# Altium footprint library CMV_lib.PcbLib: 2 footprints
Each footprint in its own frame and in the unit in brackets; x right, y up, seen from the top. Pads: shape width x height; smd on the part's side, far side on the other; paste and mask are expansions set on the pad; w line width, h text height; cw(c..) or ccw(c..) is an arc to the next point about the centre after c.
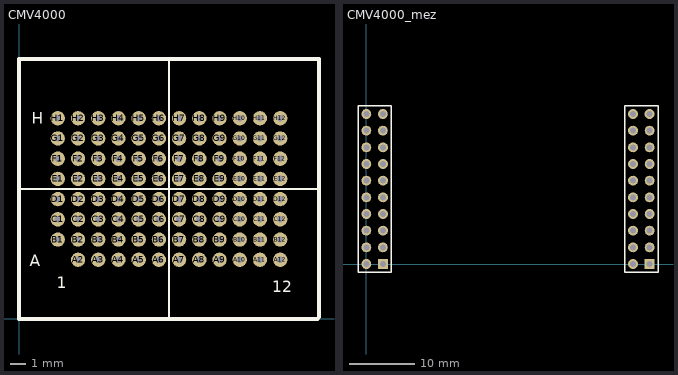
[diagram p0: the footprints below, top view; thin cyan lines are the x and y axes]

## CMV4000 [mm]
pads (95):
  round 0.9 hole 0.4: A2(3.708,3.708) A3(4.978,3.708) A4(6.248,3.708) A5(7.518,3.708) A6(8.788,3.708) A7(10.058,3.708) A8(11.328,3.708) A9(12.598,3.708) A10(13.868,3.708) A11(15.138,3.708) A12(16.408,3.708) B1(2.438,4.978) B2(3.708,4.978) B3(4.978,4.978) B4(6.248,4.978) B5(7.518,4.978) B6(8.788,4.978) B7(10.058,4.978) B8(11.328,4.978) B9(12.598,4.978) B10(13.868,4.978) B11(15.138,4.978) B12(16.408,4.978) C1(2.438,6.248) C2(3.708,6.248) C3(4.978,6.248) C4(6.248,6.248) C5(7.518,6.248) C6(8.788,6.248) C7(10.058,6.248) C8(11.328,6.248) C9(12.598,6.248) C10(13.868,6.248) C11(15.138,6.248) C12(16.408,6.248) D1(2.438,7.518) D2(3.708,7.518) D3(4.978,7.518) D4(6.248,7.518) D5(7.518,7.518) D6(8.788,7.518) D7(10.058,7.518) D8(11.328,7.518) D9(12.598,7.518) D10(13.868,7.518) D11(15.138,7.518) D12(16.408,7.518) E1(2.438,8.788) E2(3.708,8.788) E3(4.978,8.788) E4(6.248,8.788) E5(7.518,8.788) E6(8.788,8.788) E7(10.058,8.788) E8(11.328,8.788) E9(12.598,8.788) E10(13.868,8.788) E11(15.138,8.788) E12(16.408,8.788) F1(2.438,10.058) F2(3.708,10.058) F3(4.978,10.058) F4(6.248,10.058) F5(7.518,10.058) F6(8.788,10.058) F7(10.058,10.058) F8(11.328,10.058) F9(12.598,10.058) F10(13.868,10.058) F11(15.138,10.058) F12(16.408,10.058) G1(2.438,11.328) G2(3.708,11.328) G3(4.978,11.328) G4(6.248,11.328) G5(7.518,11.328) G6(8.788,11.328) G7(10.058,11.328) G8(11.328,11.328) G9(12.598,11.328) G10(13.868,11.328) G11(15.138,11.328) G12(16.408,11.328) H1(2.438,12.598) H2(3.708,12.598) H3(4.978,12.598) H4(6.248,12.598) H5(7.518,12.598) H6(8.788,12.598) H7(10.058,12.598) H8(11.328,12.598) H9(12.598,12.598) H10(13.868,12.598) H11(15.138,12.598) H12(16.408,12.598)
Top Overlay:
  lines w0.1: 0,8.153 18.796,8.153 ; 9.423,0.051 9.423,16.307
  lines w0.254: 0,0 0,16.307 18.847,16.307 18.847,0.102 18.745,0 0,0
  text "A" at 0.686,3.302 h0.7
  text "H" at 0.813,12.268 h0.7
  text "1" at 2.362,1.905 h0.7
  text "12" at 15.9,1.676 h0.7

## CMV4000_mez [mm]
pads (40):
  round 1.5 hole 0.9: GND(0.025,5.08) GND(0.025,7.62) GND(0.025,17.78) GND(0.025,20.32) GND(2.54,20.32) GND(2.565,5.08) GND(2.565,7.62) GND(2.565,17.78) GND(40.665,5.08) GND(40.665,7.62) GND(40.665,15.24) GND(40.665,17.78) GND(43.205,5.08) GND(43.205,7.62) GND(43.205,15.24) GND(43.205,17.78) VDD20(40.665,0) VDD20(40.665,2.54) VDD20(43.205,2.54) VDD33(0.025,10.16) VDD33(0.025,12.7) VDD33(2.565,10.16) VDD33(2.565,12.7) VDD33(40.665,10.16) VDD33(40.665,12.7) VDD33(43.205,10.16) VDD33(43.205,12.7) VDDPIX(0.025,0) VDDPIX(0.025,2.54) VDDPIX(2.54,2.54) VDDPIX(40.665,20.32) VDDPIX(40.665,22.86) VDDPIX(43.18,22.86) VDDPIX(43.205,20.32) Vres_H(0.025,15.24) Vres_H(2.565,15.24) ""(0.025,22.86) ""(2.54,22.86)
  rect 1.5x1.5 hole 0.9: VDD20(43.205,0) VDDPIX(2.54,0)
Top Overlay:
  lines w0.2: 39.395,-1.27 44.475,-1.27 ; 39.395,-1.27 39.395,0.635 ; 39.395,-1.27 39.395,0.635 ; 39.395,0.635 39.395,24.13 44.475,24.13 44.475,0.635 ; 44.475,-1.27 44.475,0.635 ; 44.475,-1.27 44.475,0.635 ; -1.245,-1.27 -1.245,0.635 -1.245,24.13 3.835,24.13 3.835,0.635 3.835,-1.27 -1.245,-1.27